# Altium footprint library PcbLib1.PcbLib: 7 footprints
Each footprint in its own frame and in the unit in brackets; x right, y up, seen from the top. Pads: shape width x height; smd on the part's side, far side on the other; paste and mask are expansions set on the pad; w line width, h text height; cw(c..) or ccw(c..) is an arc to the next point about the centre after c.
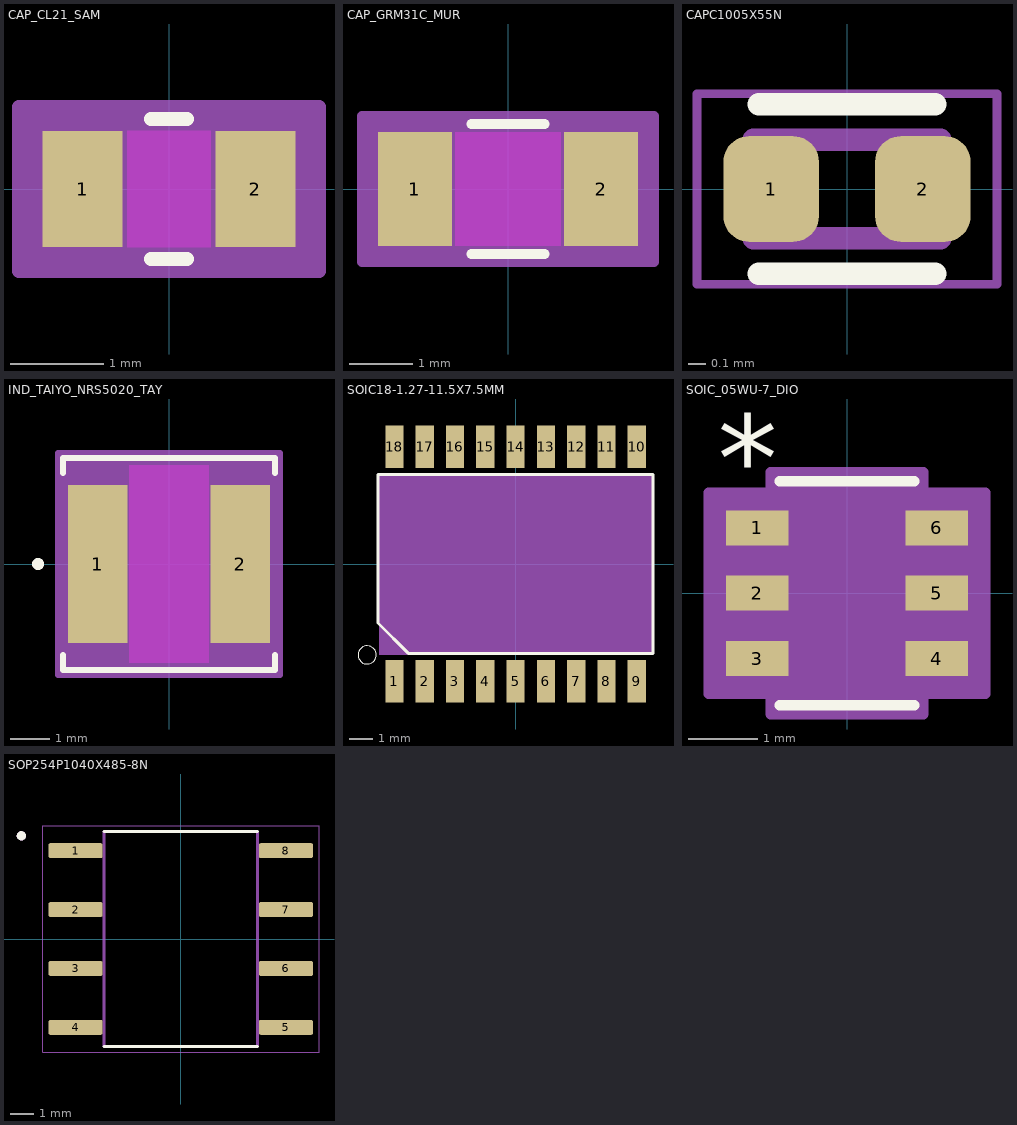
[diagram p0: the footprints below, top view; thin cyan lines are the x and y axes]

## CAP_CL21_SAM [mm]
pads (2):
  rect 0.856x1.25 smd paste+0 mask+0: 1(-0.928,0) 2(0.928,0)
Top Layer keep-out:
  region: -0.449,-0.574 -0.449,0.574 0.449,0.574 0.449,-0.574
Top Overlay:
  lines w0.152: -0.192,-0.752 0.192,-0.752 ; -0.192,0.752 0.192,0.752
Keep-Out Layer:
  region: -0.449,-0.625 -0.449,0.625 0.449,0.625 0.449,-0.625
Mechanical 13:
  lines w0.025: -1,-0.625 -1,0.625 ; -1,-0.625 -0.5,-0.625 -0.5,0.625 -1,0.625 ; -1,-0.625 1,-0.625 ; -1,-0.625 -1,0.625 ; -1,0.625 1,0.625 ; 1,-0.625 0.5,-0.625 0.5,0.625 1,0.625 ; 1,-0.625 1,0.625 ; 1,-0.625 1,0.625
Mechanical 15:
  region: 1.61,-0.879 -1.61,-0.879 -1.61,0.879 1.61,0.879
  lines w0.152: -1.61,-0.879 -1.61,0.879 1.61,0.879 1.61,-0.879 -1.61,-0.879
3D body "CAP_CL21_SAM.step": height 1.35, standoff 0, extent -1,-0.625 1,0.625

## CAP_GRM31C_MUR [mil]
pads (2):
  rect 46x71 smd paste+0 mask+0: 1(-58,0) 2(58,0)
Top Layer keep-out:
  region: -33,-33.5 -33,33.5 33,33.5 33,-33.5
Top Overlay:
  lines w6: -22.89,-40.5 22.89,-40.5 ; -22.89,40.5 22.89,40.5
Keep-Out Layer:
  region: -33,-35.5 -33,35.5 33,35.5 33,-35.5
Mechanical 13:
  lines w1: -67,-35.5 -67,35.5 ; -67,-35.5 67,-35.5 ; -67,-35.5 -35,-35.5 -35,35.5 -67,35.5 ; -67,-35.5 -67,35.5 ; -67,35.5 67,35.5 ; 67,-35.5 67,35.5 ; 67,-35.5 67,35.5 ; 67,-35.5 35,-35.5 35,35.5 67,35.5
Mechanical 15:
  region: 91,-45.5 -91,-45.5 -91,45.5 91,45.5
  lines w6: -91,-45.5 91,-45.5 91,45.5 -91,45.5 -91,-45.5
3D body "CAP_GRM31C_MUR.step": height 70.98, standoff 0, extent -67.01,-35.51 67.01,35.51

## CAPC1005X55N [mm]
pads (2):
  rrect53% 0.54x0.6 smd: 1(-0.43,0) 2(0.43,0)
Top Overlay:
  lines w0.127: -0.5,-0.48 0.5,-0.48 ; -0.5,0.48 0.5,0.48
Mechanical 13:
  lines w0.127: -0.53,-0.28 -0.53,0.28 0.53,0.28 0.53,-0.28 -0.53,-0.28
Mechanical 15:
  lines w0.05: -0.85,-0.54 -0.85,0.54 0.85,0.54 0.85,-0.54 -0.85,-0.54

## IND_TAIYO_NRS5020_TAY [mil]
pads (2):
  rect 59x157 smd paste+0 mask+0: 1(-71,0) 2(71,0)
Top Layer keep-out:
  region: -39.5,-98.5 -39.5,98.5 39.5,98.5 39.5,-98.5
Top Overlay:
  circle w6: c-130.5,0 r3
  lines w6: -105.5,-90.61 -105.5,-105.5 105.5,-105.5 105.5,-90.61 ; -105.5,90.61 -105.5,105.5 105.5,105.5 105.5,90.61
Mechanical 13:
  circle w0: c-97.5,0 r3
  lines w1: -100.5,-100.5 -100.5,100.5 100.5,100.5 100.5,-100.5 -100.5,-100.5
Mechanical 15:
  region: -110.5,-88.5 -110.5,88.5 -110.5,110.5 110.5,110.5 110.5,88.5 110.5,-88.5 110.5,-110.5 -110.5,-110.5
  lines w6: -110.5,-110.5 110.5,-110.5 110.5,-88.5 110.5,88.5 110.5,110.5 -110.5,110.5 -110.5,88.5 -110.5,-88.5 -110.5,-110.5
3D body "IND_TAIYO_NRS5020_TAY.step": height 79.02, standoff 0, extent -100.51,-100.59 100.51,100.59

## SOIC18-1.27-11.5X7.5MM [mil]
pads (18):
  rect 30x70 smd: 1(-200,-193.5) 2(-150,-193.5) 3(-100,-193.5) 4(-50,-193.5) 5(0,-193.5) 6(50,-193.5) 7(100,-193.5) 8(150,-193.5) 9(200,-193.5) 10(200,193.5) 11(150,193.5) 12(100,193.5) 13(50,193.5) 14(0,193.5) 15(-50,193.5) 16(-100,193.5) 17(-150,193.5) 18(-200,193.5)
Top Overlay:
  circle w0: c-245,-150 r15
  lines w5: -227,-97.5 -227,147.5 227,147.5 227,-147.5 -177,-147.5 -227,-97.5
Mechanical 15:
  region: 225,-150.03 -225.05,-150.03 -225.05,150 225,150

## SOIC_05WU-7_DIO [mil]
pads (6):
  rect 35.5x20 smd paste+0 mask+0: 1(-51.25,37.4) 2(-51.25,0) 3(-51.25,-37.4) 4(51.25,-37.4) 5(51.25,0) 6(51.25,37.4)
Top Overlay:
  lines w6: -38.5,-64 38.5,-64 ; -38.5,64 38.5,64
  text "*" at -73.75,52.4 h50
Mechanical 13:
  lines w0: -12,59 ccw(c0,59) 12,59
  lines w1: -55,-46.4 -33.5,-46.4 -33.5,-28.4 -55,-28.4 -55,-46.4 ; -55,-9 -33.5,-9 -33.5,9 -55,9 -55,-9 ; -55,28.4 -33.5,28.4 -33.5,46.4 -55,46.4 -55,28.4 ; -33.5,-59 -33.5,59 33.5,59 33.5,-59 -33.5,-59 ; 33.5,-46.4 55,-46.4 55,-28.4 33.5,-28.4 33.5,-46.4 ; 33.5,-9 55,-9 55,9 33.5,9 33.5,-9 ; 33.5,28.4 55,28.4 55,46.4 33.5,46.4 33.5,28.4
  text "*" at -31,6 h50
Mechanical 15:
  region: -43.5,-57.4 -79,-57.4 -79,57.4 -43.5,57.4 -43.5,69 43.5,69 43.5,57.4 79,57.4 79,-57.4 43.5,-57.4 43.5,-69 -43.5,-69
  lines w6: -79,-57.4 -43.5,-57.4 -43.5,-69 43.5,-69 43.5,-57.4 79,-57.4 79,57.4 43.5,57.4 43.5,69 -43.5,69 -43.5,57.4 -79,57.4 -79,-57.4
3D body "SOIC_05WU-7_DIO.step": height 39.09, standoff 0, extent -55,-59.02 55,59.02

## SOP254P1040X485-8N [mm]
pads (8):
  rrect25% 2.34x0.64 smd: 1(-4.535,3.81) 2(-4.535,1.27) 3(-4.535,-1.27) 4(-4.535,-3.81) 5(4.535,-3.81) 6(4.535,-1.27) 7(4.535,1.27) 8(4.535,3.81)
Top Overlay:
  circle w0.2: c-6.875,4.45 r0.1
  lines w0.127: -3.31,-4.643 3.31,-4.643 ; -3.31,4.643 3.31,4.643
Mechanical 13:
  circle w0.2: c-6.875,4.45 r0.1
  lines w0.127: -3.31,-4.643 -3.31,4.643 3.31,4.643 3.31,-4.643 -3.31,-4.643
Mechanical 15:
  lines w0.05: -5.96,-4.892 -5.96,4.892 5.96,4.892 5.96,-4.892 -5.96,-4.892